# Altium footprint library SOT 23 - 5 and 6 Leads.PcbLib: 12 footprints
Each footprint in its own frame and in the unit in brackets; x right, y up, seen from the top. Pads: shape width x height; smd on the part's side, far side on the other; paste and mask are expansions set on the pad; w line width, h text height; cw(c..) or ccw(c..) is an arc to the next point about the centre after c.
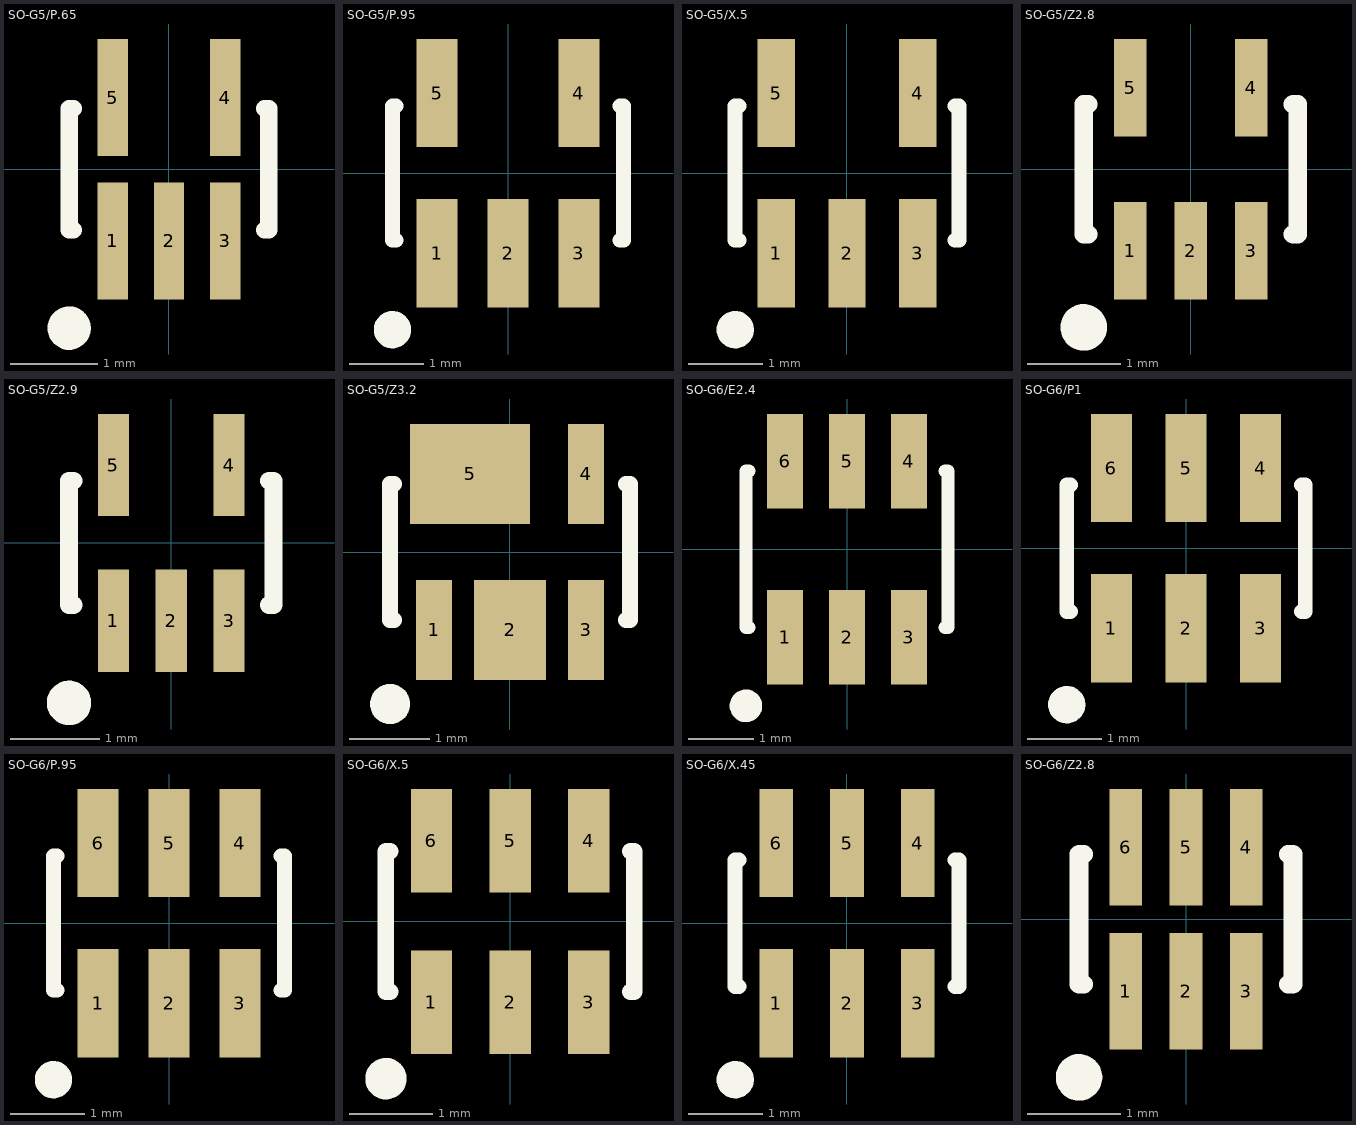
[diagram p0: the footprints below, top view; thin cyan lines are the x and y axes]

## SO-G5/P.65 [mm] "SOT-353/SC-88A; 5 Leads; Body 2.1 x 2.4 mm, inc. leads (LxW max)"
height 1.1
pads (5):
  rect 0.35x1.35 smd: 1(-0.65,-0.825) 2(0,-0.825) 3(0.65,-0.825) 4(0.65,0.825) 5(-0.65,0.825)
Top Overlay:
  circle w0.25: c-1.15,-1.83 r0.125
  lines w0.2: -1.1,-0.7 -1.15,-0.7 -1.15,0.7 -1.1,0.7 ; 1.1,-0.7 1.15,-0.7 1.15,0.7 1.1,0.7

## SO-G5/P.95 [mm] "SOT-23/SC-74A; 5 Leads; Body 3.1 x 3 mm, inc. leads (LxW max)"
height 1.45
pads (5):
  rect 0.55x1.45 smd: 1(-0.95,-1.075) 2(0,-1.075) 3(0.95,-1.075) 4(0.95,1.075) 5(-0.95,1.075)
Top Overlay:
  circle w0.25: c-1.55,-2.1 r0.125
  lines w0.2: -1.5,-0.9 -1.55,-0.9 -1.55,0.9 -1.5,0.9 ; 1.5,-0.9 1.55,-0.9 1.55,0.9 1.5,0.9

## SO-G5/X.5 [mm] "SOT-23/SC-74A; 5 Leads; Body 3 x 3 mm, inc. leads (LxW max)"
height 1.42
pads (5):
  rect 0.5x1.45 smd: 1(-0.95,-1.075) 2(0,-1.075) 3(0.95,-1.075) 4(0.95,1.075) 5(-0.95,1.075)
Top Overlay:
  circle w0.25: c-1.5,-2.1 r0.125
  lines w0.2: -1.45,-0.9 -1.5,-0.9 -1.5,0.9 -1.45,0.9 ; 1.45,-0.9 1.5,-0.9 1.5,0.9 1.45,0.9

## SO-G5/Z2.8 [mm] "SOT-353/SC-88A; 5 Leads; Body 2.2 x 2.2 mm, inc. leads (LxW max)"
height 1.1
pads (5):
  rect 0.35x1.05 smd: 1(-0.65,-0.875) 2(0,-0.875) 3(0.65,-0.875) 4(0.65,0.875) 5(-0.65,0.875)
Top Overlay:
  circle w0.25: c-1.15,-1.7 r0.125
  lines w0.2: -1.1,-0.7 -1.15,-0.7 -1.15,0.7 -1.1,0.7 ; 1.1,-0.7 1.15,-0.7 1.15,0.7 1.1,0.7

## SO-G5/Z2.9 [mm] "SOT-353/SC-88A; 5 Leads; Body 2.2 x 2.4 mm, inc. leads (LxW max)"
height 1.1
pads (5):
  rect 0.35x1.15 smd: 1(-0.65,-0.875) 2(0,-0.875) 3(0.65,-0.875) 4(0.65,0.875) 5(-0.65,0.875)
Top Overlay:
  circle w0.25: c-1.15,-1.8 r0.125
  lines w0.2: -1.1,-0.7 -1.15,-0.7 -1.15,0.7 -1.1,0.7 ; 1.1,-0.7 1.15,-0.7 1.15,0.7 1.1,0.7

## SO-G5/Z3.2 [mm] "Small Outline; 5 Leads; Body 3.1 x 2.6 mm, inc. leads (LxW max)"
height 1.1
pads (5):
  rect 0.45x1.25 smd: 1(-0.95,-0.975) 3(0.95,-0.975) 4(0.95,0.975)
  rect 0.9x1.25 smd: 2(0,-0.975)
  rect 1.5x1.25 smd: 5(-0.5,0.975)
Top Overlay:
  circle w0.25: c-1.5,-1.9 r0.125
  lines w0.2: -1.45,-0.85 -1.5,-0.85 -1.5,0.85 -1.45,0.85 ; 1.45,-0.85 1.5,-0.85 1.5,0.85 1.45,0.85

## SO-G6/E2.4 [mm] "Small Outline; 6 Leads; Body 3.6 x 3.6 mm, inc. leads (LxW max)"
height 1.4
pads (6):
  rect 0.55x1.45 smd: 1(-0.95,-1.35) 2(0,-1.35) 3(0.95,-1.35) 4(0.95,1.35) 5(0,1.35) 6(-0.95,1.35)
Top Overlay:
  circle w0.25: c-1.55,-2.4 r0.125
  lines w0.2: -1.5,-1.2 -1.55,-1.2 -1.55,1.2 -1.5,1.2 ; 1.5,-1.2 1.55,-1.2 1.55,1.2 1.5,1.2

## SO-G6/P1 [mm] "SOT-457/SC-74; 6 Leads; Body 3.1 x 2.9 mm, inc. leads (LxW max)"
height 1.1
pads (6):
  rect 0.55x1.45 smd: 1(-1,-1.075) 2(0,-1.075) 3(1,-1.075) 4(1,1.075) 5(0,1.075) 6(-1,1.075)
Top Overlay:
  circle w0.25: c-1.6,-2.1 r0.125
  lines w0.2: -1.55,-0.85 -1.6,-0.85 -1.6,0.85 -1.55,0.85 ; 1.55,-0.85 1.6,-0.85 1.6,0.85 1.55,0.85

## SO-G6/P.95 [mm] "SOT-457/SC-74; 6 Leads; Body 3.1 x 3 mm, inc. leads (LxW max)"
height 1.45
pads (6):
  rect 0.55x1.45 smd: 1(-0.95,-1.075) 2(0,-1.075) 3(0.95,-1.075) 4(0.95,1.075) 5(0,1.075) 6(-0.95,1.075)
Top Overlay:
  circle w0.25: c-1.55,-2.1 r0.125
  lines w0.2: -1.5,-0.9 -1.55,-0.9 -1.55,0.9 -1.5,0.9 ; 1.5,-0.9 1.55,-0.9 1.55,0.9 1.5,0.9

## SO-G6/X.5 [mm] "SOT-457/SC-74; 6 Leads; Body 3.1 x 2.6 mm, inc. leads (LxW max)"
height 1.1
pads (6):
  rect 0.5x1.25 smd: 1(-0.95,-0.975) 2(0,-0.975) 3(0.95,-0.975) 4(0.95,0.975) 5(0,0.975) 6(-0.95,0.975)
Top Overlay:
  circle w0.25: c-1.5,-1.9 r0.125
  lines w0.2: -1.45,-0.85 -1.5,-0.85 -1.5,0.85 -1.45,0.85 ; 1.45,-0.85 1.5,-0.85 1.5,0.85 1.45,0.85

## SO-G6/X.45 [mm] "SOT-457/SC-74; 6 Leads; Body 3.1 x 3 mm, inc. leads (LxW max)"
height 1.3
pads (6):
  rect 0.45x1.45 smd: 1(-0.95,-1.075) 2(0,-1.075) 3(0.95,-1.075) 4(0.95,1.075) 5(0,1.075) 6(-0.95,1.075)
Top Overlay:
  circle w0.25: c-1.5,-2.1 r0.125
  lines w0.2: -1.45,-0.85 -1.5,-0.85 -1.5,0.85 -1.45,0.85 ; 1.45,-0.85 1.5,-0.85 1.5,0.85 1.45,0.85

## SO-G6/Z2.8 [mm] "SOT-363/SC-88; 6 Leads; Body 2.2 x 2.2 mm, inc. leads (LxW max)"
height 1
pads (6):
  rect 0.35x1.25 smd: 1(-0.65,-0.775) 2(0,-0.775) 3(0.65,-0.775) 4(0.65,0.775) 5(0,0.775) 6(-0.65,0.775)
Top Overlay:
  circle w0.25: c-1.15,-1.7 r0.125
  lines w0.2: -1.1,-0.7 -1.15,-0.7 -1.15,0.7 -1.1,0.7 ; 1.1,-0.7 1.15,-0.7 1.15,0.7 1.1,0.7